# Altium footprint library SM_XTAL_4-SOJ.PcbLib: 1 footprints
Each footprint in its own frame and in the unit in brackets; x right, y up, seen from the top. Pads: shape width x height; smd on the part's side, far side on the other; paste and mask are expansions set on the pad; w line width, h text height; cw(c..) or ccw(c..) is an arc to the next point about the centre after c.
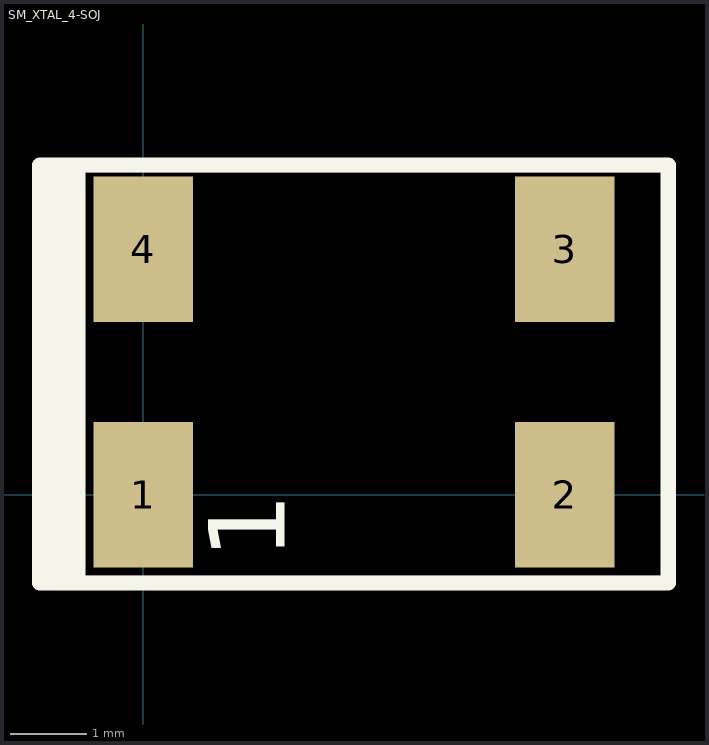
[diagram p0: the footprint, top view; thin cyan lines are the x and y axes]

## SM_XTAL_4-SOJ [mm] "Crystal 4-SOJ, 5.50mm pitch, Plastic molded SMD"
height 2.5
pads (4):
  rect 1.3x1.9 smd: 1(0,0) 2(5.5,0) 3(5.5,3.2) 4(0,3.2)
Top Overlay:
  lines w0.2: -1.2,-1.15 -1.2,4.3 ; -1.1,-1.15 -1.1,4.3 ; -1,-1.15 -1,4.3 ; -0.85,-1.15 -0.85,4.3 ; -1.35,-1.15 6.85,-1.15 6.85,4.3 -1.35,4.3 -1.35,-1.15
  text "1" at 1.85,-0.85 h1
Mechanical 5:
  lines w0.1: -1.4,-1.1 -1.4,4.25 6.9,4.25 6.9,-1.1 -1.4,-1.1
3D body "ABS25.STEP": height 2.66, standoff 0, extent -1.25,-0.45 6.75,3.55